# Altium schematic symbol library 74LVC2G17GV_125.SchLib: 1 symbol
Pins are listed as number, name and electrical type; pins without a type are passive.

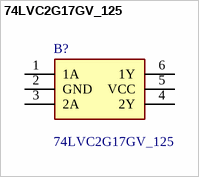
[diagram p0: symbol 74LVC2G17GV_125]

## 74LVC2G17GV_125
designator B?
74LVC2G17 - Dual non-inverting Schmitt trigger with 5 V tolerant input@en-us; Manufacturer_Name: Nexperia; Manufacturer_Part_Number: 74LVC2G17GV,125; Geometry.Height: 1.1mm; Mouser Part Number: 771-74LVC2G17GV-G; Mouser Price/Stock: https://www.mouser.co.uk/ProductDetail/Nexperia/74LVC2G17GV125?qs=me8TqzrmIYV0s3Bq3xwtOg%3D%3D; Datasheet Link: https://assets.nexperia.com/documents/data-sheet/74LVC2G17.pdf
footprint SOT95P275X110-6N
pins: 1 1A, 2 GND, 3 2A, 4 2Y, 5 VCC, 6 1Y